# Altium schematic symbol library fuses.SchLib: 2 symbols
Pins are listed as number, name and electrical type; pins without a type are passive.

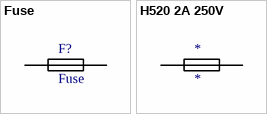
[diagram p0: symbols Fuse to H520 2A 250V]

## Fuse
designator F?
pins: 1, 2

## H520 2A 250V
designator *
footprint H520 (Fuse)
pins: 1, 2